# Altium footprint library PcbLib1.PcbLib: 14 footprints
Each footprint in its own frame and in the unit in brackets; x right, y up, seen from the top. Pads: shape width x height; smd on the part's side, far side on the other; paste and mask are expansions set on the pad; w line width, h text height; cw(c..) or ccw(c..) is an arc to the next point about the centre after c.
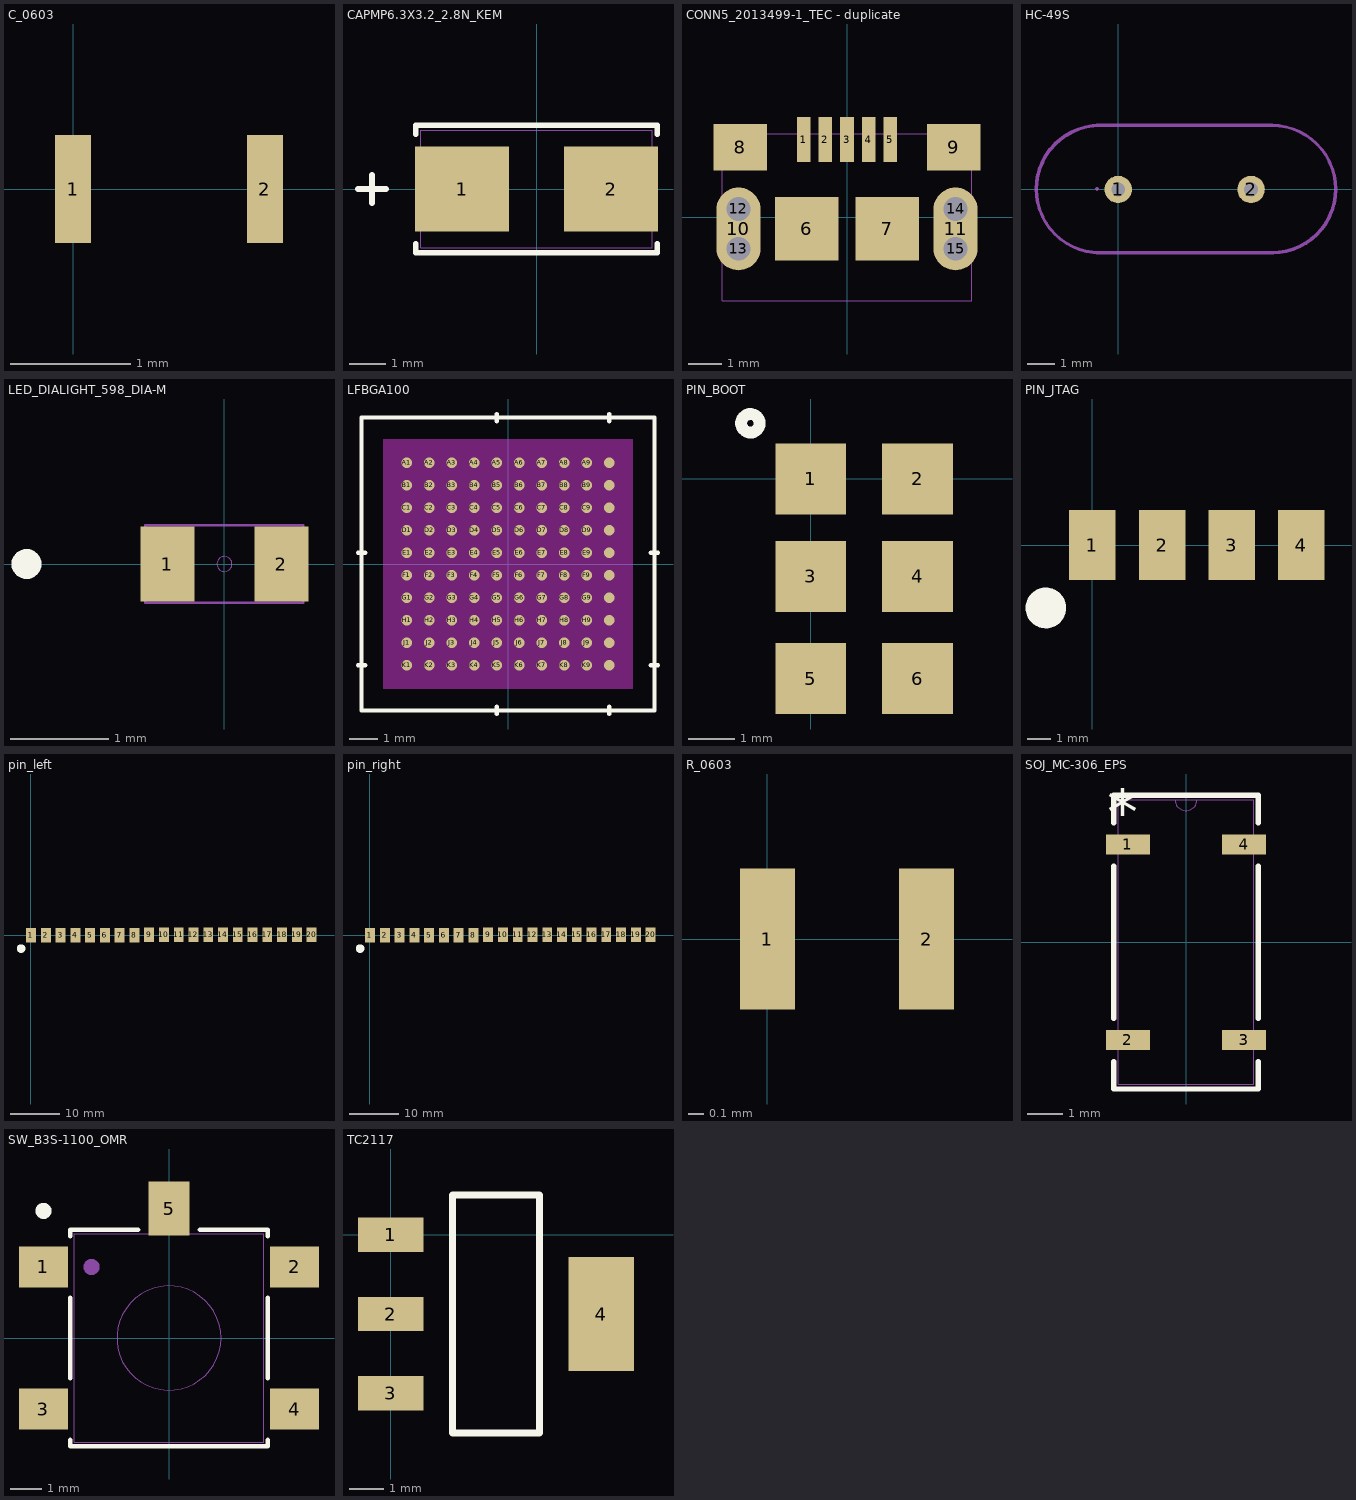
[diagram p0: the footprints below, top view; thin cyan lines are the x and y axes]

## C_0603 [mm]
pads (2):
  rect 0.3x0.9 smd: 1(0,0) 2(1.6,0)
3D body: height 0.9, standoff 0, extent -0.3,-0.6 1.9,0.6

## CAPMP6.3X3.2_2.8N_KEM [mm]
pads (2):
  rect 2.55x2.3 smd paste+0 mask+0: 1(-2.025,0) 2(2.025,0)
Top Overlay:
  lines w0.152: -4.851,0 -4.089,0 ; -4.47,-0.381 -4.47,0.381 ; -3.277,-1.483 -3.277,-1.727 3.277,-1.727 3.277,-1.483 ; -3.277,1.483 -3.277,1.727 3.277,1.727 3.277,1.483
Mechanical 13:
  lines w0.025: -4.851,0 -4.089,0 ; -4.47,-0.381 -4.47,0.381 ; -3.15,-1.6 3.15,-1.6 3.15,1.6 -3.15,1.6 -3.15,-1.6
3D body: height 0.25, standoff 0, extent 0,0 0.254,0.254
3D body "CTSM_TCM2NK_6032_L6.3W3.5H2.8T0.13S1.3F2.3A2.9B0.65E2.4G2.8P0.9R1X0.2.step": height 2.81, standoff 0, extent -3.15,-1.722 3.15,1.778

## CONN5_2013499-1_TEC - duplicate [mil]
pads (15):
  rect 16x53 smd paste+0 mask+0: 1(-51.18,91.54) 2(-25.59,91.54) 3(0,91.54) 4(25.59,91.54) 5(51.18,91.54)
  rect 75x75 smd: 6(-47.24,-13.86) 7(47.24,-13.86)
  rect 63x55 smd: 8(-125.98,82.6) 9(125.98,82.6)
  oval 52x98 smd: 10(-128.15,-13.86) 11(128.15,-13.86)
  round 28 hole 28 unplated: 12(-128.15,9.64) 13(-128.15,-37.36) 14(128.15,9.64) 15(128.15,-37.36)
Bottom Overlay:
  circle w20: c-48.82,150 r15
Mechanical 13:
  lines w1: -147.5,-98.5 147.5,-98.5 147.5,98.5 -147.5,98.5 -147.5,-98.5
Multi-Layer:
  lines w1: -142.15,-37.36 -142.15,9.64 ; -114.15,-37.36 -114.15,9.64 ; 114.15,-37.36 114.15,9.64 ; 142.15,-37.36 142.15,9.64
3D body "c-2174507-2-b-3d.stp": height 107.48, standoff 1.18, extent -153.54,-98.35 153.55,98.5

## HC-49S [mm]
pads (2):
  round 1 hole 0.5: 1(0,0) 2(4.85,0)
Top Assembly:
  lines w0.1: -0.8,-2.3 5.623,-2.3 ; -0.8,0.025 -0.777,0.048 ; -0.777,2.36 5.623,2.349 ; -0.775,-2.325 5.648,-2.325 ; -0.775,0 -0.752,0.023 ; -0.752,2.335 5.648,2.324 ; -0.675,-2.3 cw(c-0.675,0.025) -0.675,2.35 ; -0.65,-2.325 cw(c-0.65,0) -0.65,2.325 ; 5.6,-2.3 ccw(c5.6,0.025) 5.6,2.35 ; 5.625,-2.325 ccw(c5.625,0) 5.625,2.325
3D body: height 13.46, standoff 0, extent -0.95,-2.3 5.725,2.35
3D body: height 13.46, standoff 0, extent 0.325,-2.3 4.25,2.35
3D body: height 13.46, standoff 0, extent -3.05,-2.3 1.6,2.35
3D body: height 13.46, standoff 0, extent 3.3,-2.3 7.95,2.35

## LED_DIALIGHT_598_DIA-M [mm]
pads (2):
  rect 0.544x0.761 smd paste+0 mask+0: 1(-0.578,0) 2(0.578,0)
Top Overlay:
  circle w0.152: c-2.006,0 r0.076
Mechanical 13:
  circle w0: c0,0 r0.076
  lines w0.025: -0.8,-0.394 0.8,-0.394 0.8,0.394 -0.8,0.394 -0.8,-0.394
3D body "LED_DIALIGHT_598_DIA.step": height 0.71, standoff 0, extent -0.8,-0.394 0.8,0.394
3D body "LED_DIALIGHT_598_DIA.step": height 0.71, standoff 0, extent -0.8,-0.394 0.8,0.394

## LFBGA100 [mm]
pads (100):
  round 0.38 smd paste+0 mask+0: A1(-3.6,3.6) A2(-2.8,3.6) A3(-2,3.6) A4(-1.2,3.6) A5(-0.4,3.6) A6(0.4,3.6) A7(1.2,3.6) A8(2,3.6) A9(2.8,3.6) A10(3.6,3.6) B1(-3.6,2.8) B2(-2.8,2.8) B3(-2,2.8) B4(-1.2,2.8) B5(-0.4,2.8) B6(0.4,2.8) B7(1.2,2.8) B8(2,2.8) B9(2.8,2.8) B10(3.6,2.8) C1(-3.6,2) C2(-2.8,2) C3(-2,2) C4(-1.2,2) C5(-0.4,2) C6(0.4,2) C7(1.2,2) C8(2,2) C9(2.8,2) C10(3.6,2) D1(-3.6,1.2) D2(-2.8,1.2) D3(-2,1.2) D4(-1.2,1.2) D5(-0.4,1.2) D6(0.4,1.2) D7(1.2,1.2) D8(2,1.2) D9(2.8,1.2) D10(3.6,1.2) E1(-3.6,0.4) E2(-2.8,0.4) E3(-2,0.4) E4(-1.2,0.4) E5(-0.4,0.4) E6(0.4,0.4) E7(1.2,0.4) E8(2,0.4) E9(2.8,0.4) E10(3.6,0.4) F1(-3.6,-0.4) F2(-2.8,-0.4) F3(-2,-0.4) F4(-1.2,-0.4) F5(-0.4,-0.4) F6(0.4,-0.4) F7(1.2,-0.4) F8(2,-0.4) F9(2.8,-0.4) F10(3.6,-0.4) G1(-3.6,-1.2) G2(-2.8,-1.2) G3(-2,-1.2) G4(-1.2,-1.2) G5(-0.4,-1.2) G6(0.4,-1.2) G7(1.2,-1.2) G8(2,-1.2) G9(2.8,-1.2) G10(3.6,-1.2) H1(-3.6,-2) H2(-2.8,-2) H3(-2,-2) H4(-1.2,-2) H5(-0.4,-2) H6(0.4,-2) H7(1.2,-2) H8(2,-2) H9(2.8,-2) H10(3.6,-2) J1(-3.6,-2.8) J2(-2.8,-2.8) J3(-2,-2.8) J4(-1.2,-2.8) J5(-0.4,-2.8) J6(0.4,-2.8) J7(1.2,-2.8) J8(2,-2.8) J9(2.8,-2.8) J10(3.6,-2.8) K1(-3.6,-3.6) K2(-2.8,-3.6) K3(-2,-3.6) K4(-1.2,-3.6) K5(-0.4,-3.6) K6(0.4,-3.6) K7(1.2,-3.6) K8(2,-3.6) K9(2.8,-3.6) K10(3.6,-3.6)
Top Overlay:
  lines w0.152: -5.334,-3.6 -5.08,-3.6 ; -5.334,0.4 -5.08,0.4 ; -0.4,-5.334 -0.4,-5.08 ; -0.4,5.08 -0.4,5.334 ; 3.6,-5.334 3.6,-5.08 ; 3.6,5.08 3.6,5.334 ; 5.08,-3.6 5.334,-3.6 ; 5.08,0.4 5.334,0.4 ; -5.207,-5.207 5.207,-5.207 5.207,5.207 -5.207,5.207 -5.207,-5.207
Bottom Overlay:
  text "A" at -5.715,2.965 h1.27
  text "K" at -5.715,-4.235 h1.27
  text "1" at -4.235,5.715 h1.27
  text "10" at 2.965,5.715 h1.27
Keep-Out Layer:
  region: -4.444,-4.444 -4.444,4.444 4.444,4.444 4.444,-4.444
3D body "LFBGA100.step": height 1.7, standoff 0, extent -5.08,-5.08 5.08,5.08

## PIN_BOOT [mil]
pads (6):
  rect 60x60 smd: 1(0,0) 2(90.55,0) 3(0,-82.68) 4(90.55,-82.68) 5(0,-169.29) 6(90.55,-169.29)
Top Overlay:
  circle w10: c-51.18,47.24 r7.87

## PIN_JTAG [mm]
pads (4):
  rect 2x3 smd: 1(0,0) 2(3,0) 3(5.983,0) 4(8.967,0)
Top Overlay:
  circle w0.9: c-2,-2.7 r0.424

## pin_left [mm]
pads (20):
  rect 2x3 smd: 1(0,0) 2(3,0) 3(5.983,0) 4(8.967,0) 5(11.95,0) 6(14.933,0) 7(17.917,0) 8(20.9,0) 9(23.883,0.1) 10(26.867,0.1) 11(29.85,0.1) 12(32.833,0.1) 13(35.817,0.1) 14(38.8,0.1) 15(41.783,0.1) 16(44.767,0.1) 17(47.75,0.1) 18(50.733,0.1) 19(53.717,0.1) 20(56.7,0.1)
Top Overlay:
  circle w0.9: c-2,-2.7 r0.424

## pin_right [mm]
pads (20):
  rect 2x3 smd: 1(0,0) 2(3,0) 3(5.983,0) 4(8.967,0) 5(11.95,0) 6(14.933,0) 7(17.917,0) 8(20.9,0) 9(23.883,0.1) 10(26.867,0.1) 11(29.85,0.1) 12(32.833,0.1) 13(35.817,0.1) 14(38.8,0.1) 15(41.783,0.1) 16(44.767,0.1) 17(47.75,0.1) 18(50.733,0.1) 19(53.717,0.1) 20(56.7,0.1)
Top Overlay:
  circle w0.9: c-2,-2.7 r0.424

## R_0603 [mm]
pads (2):
  rect 0.35x0.9 smd: 1(0,0) 2(1.016,0)
3D body: height 0.3, standoff 0, extent -0.3,-0.575 1.325,0.575

## SOJ_MC-306_EPS [mm]
pads (4):
  rect 1.239x0.558 smd paste+0 mask+0: 1(-1.635,2.75) 2(-1.635,-2.75) 3(1.635,-2.75) 4(1.635,2.75)
Top Overlay:
  lines w0.152: -2.032,-3.362 -2.032,-4.127 2.032,-4.127 2.032,-3.362 ; -2.032,-2.138 -2.032,2.138 ; -2.032,3.362 -2.032,4.127 2.032,4.127 2.032,3.362 ; 2.032,-2.138 2.032,2.138
  text "*" at -2.207,3.029 h1.27
Mechanical 13:
  lines w0: -0.305,4 ccw(c0,4) 0.305,4
  lines w0.025: -1.905,-4 1.905,-4 1.905,4 -1.905,4 -1.905,-4 ; -1.905,-3.004 -1.905,-2.496 -1.905,-3.004 ; -1.905,2.496 -1.905,3.004 -1.905,2.496 ; 1.905,-3.004 1.905,-2.496 1.905,-3.004 ; 1.905,2.496 1.905,3.004 1.905,2.496
  text "*" at -1.445,2.038 h1.27
3D body "SOJ_MC-306_EPS.step": height 1.7, standoff 0, extent -1.905,-4 1.905,4
3D body "SOJ_MC-306_EPS.step": height 1.7, standoff 0, extent -1.905,-4 1.905,4

## SW_B3S-1100_OMR [mm]
pads (5):
  rect 1.55x1.3 smd paste+0 mask+0: 1(-3.975,2.25) 2(3.975,2.25) 3(-3.975,-2.25) 4(3.975,-2.25)
  rect 1.3x1.7 smd: 5(0,4.1)
Top Overlay:
  circle w0.254: c-3.975,4.028 r0.127
  lines w0.152: -3.127,-3.225 -3.127,-3.427 3.127,-3.427 3.127,-3.225 ; -3.127,-1.275 -3.127,1.275 ; -3.127,3.225 -3.127,3.427 -0.983,3.427 ; 0.983,3.427 3.127,3.427 3.127,3.225 ; 3.127,-1.275 3.127,1.275
Bottom Overlay:
  circle w0.254: c-3.975,4.028 r0.127
Mechanical 13:
  circle w0.254: c-2.451,2.25 r0.127
  circle w0: c0,0 r1.65
  lines w0.025: -3,-3.3 3,-3.3 3,3.3 -3,3.3 -3,-3.3
3D body "B3S_110[].step": height 3.15, standoff 0.05, extent -3.5,-3.25 3.5,3.25

## TC2117 [mm]
pads (4):
  rect 1.9x1 smd: 1(0,0) 2(0,-2.3) 3(0,-4.6)
  rect 1.9x3.3 smd: 4(6.1,-2.3)
Top Overlay:
  lines w0.2: 3.625,1.15 4.315,1.15 4.315,-5.75 1.785,-5.75 1.785,1.15 3.683,1.15
3D body "SOT-223_3MC_MCH.step": height 1.8, standoff 0, extent -0.475,-5.684 6.825,1.016